# EAGLE library part USB-B-SHIELD (library Socket)
USB B型母座（带可焊接固定脚）
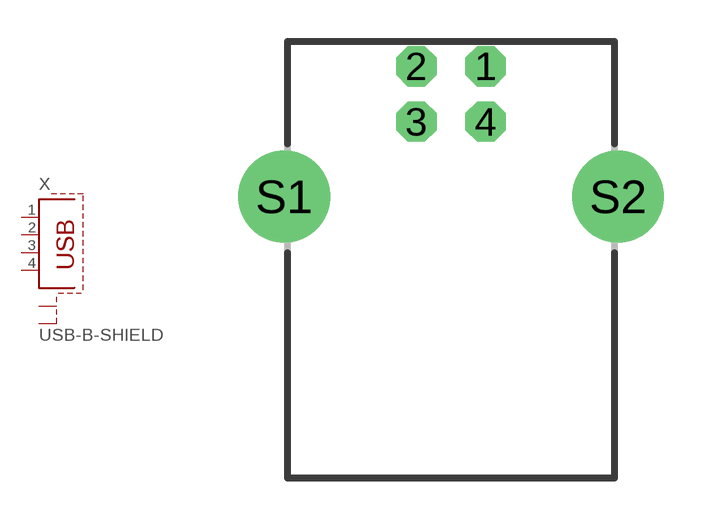
[diagram p1: symbol with the pads of USB-B-SHIELD; footprint USB-B-SHIELD]

Designator prefix X

## USB-B-SHIELD (OC_FARNELL: unknown; OC_NEWARK: unknown)  [USB-B-SHIELD]
1  1  pas
2  2  pas
3  3  pas
4  4  pas
S1  S1  pas
S2  S2  pas

## Footprint USB-B-SHIELD (pad centres in mm)
USB connector with shield
drill 0.95 octagon: 1 1.25,4.71; 2 -1.25,4.71; 3 -1.25,2.71; 4 1.25,2.71
drill 2.3 pad 2.9: S1 -6.02,0; S2 6.02,0